# Altium footprint library MAX30100.PcbLib: 1 footprints
Each footprint in its own frame and in the unit in brackets; x right, y up, seen from the top. Pads: shape width x height; smd on the part's side, far side on the other; paste and mask are expansions set on the pad; w line width, h text height; cw(c..) or ccw(c..) is an arc to the next point about the centre after c.
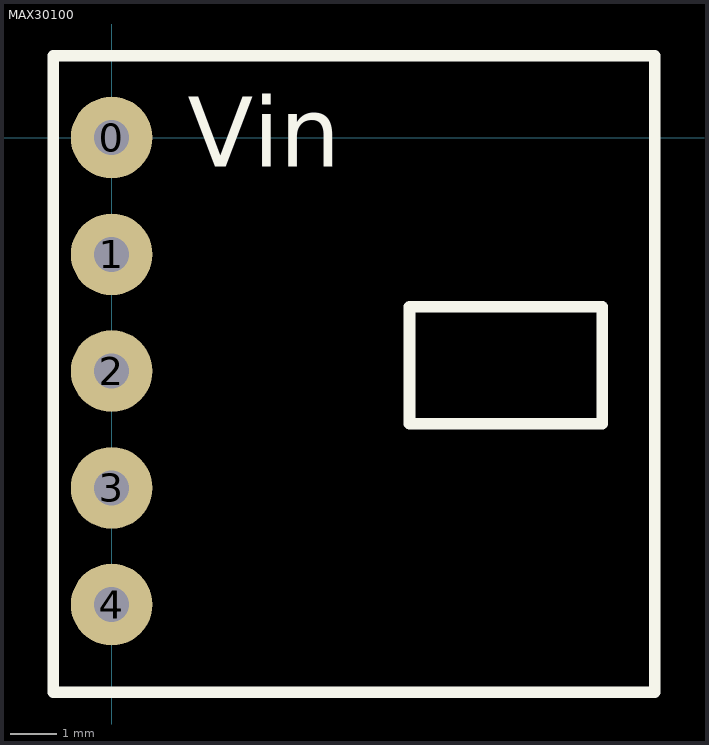
[diagram p0: the footprint, top view; thin cyan lines are the x and y axes]

## MAX30100 [mil]
pads (5):
  round 70 hole 30: 0(0,0) 1(0,-100) 2(0,-200) 3(0,-300) 4(0,-400)
Top Overlay:
  lines w10: -50,-475 -50,70 465,70 465,-475 -50,-475 ; 255,-245 255,-145 420,-145 420,-245 255,-245
  text "Vin" at 65,-25 h60
3D body: height 10, standoff 0, extent -50,-475 465,70